# Altium schematic symbol library Gero_Board.SchLib: 35 symbols
Pins are listed as number, name and electrical type; pins without a type are passive.

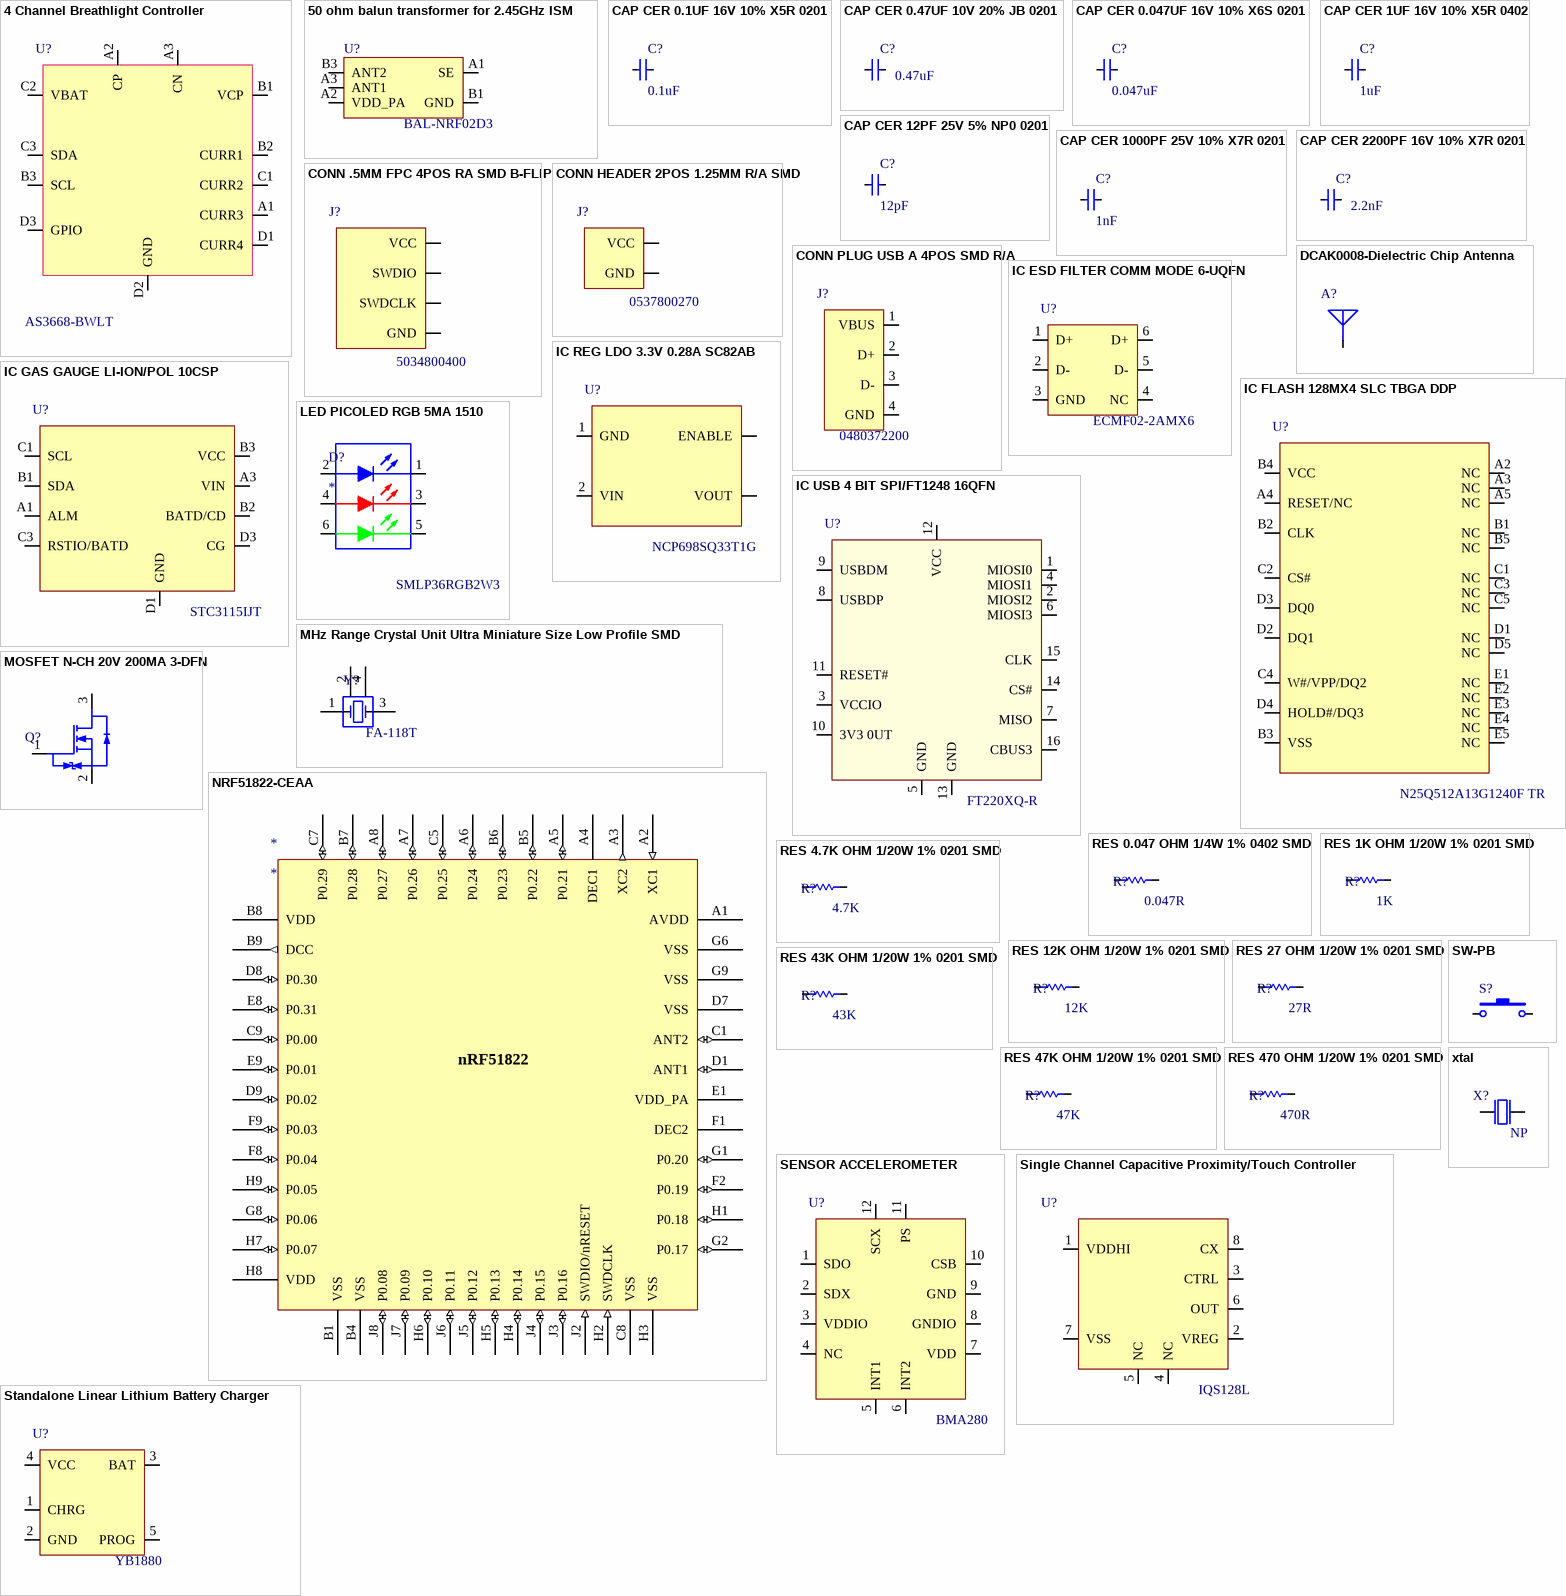
[diagram p0: symbols 4 Channel Breathlight Controller to xtal]

## 4 Channel Breathlight Controller
designator U?  Manufacturer Part Number: AS3668-BWLT
4 Channel Breathlight Controller; Manufacturer: AMS
footprint AS3668  CSP 1.3x1.7mm
pins: A1 CURR3, A2 CP, A3 CN, B1 VCP, B2 CURR1, B3 SCL, C1 CURR2, C2 VBAT, C3 SDA, D1 CURR4, D2 GND, D3 GPIO

## 50 ohm balun transformer for 2.45GHz ISM
designator U?  Manufacturer Part Number: BAL-NRF02D3
50 ohm balun transformer for 2.45GHz ISM; Manufacturer: ST Microelectronics
footprint BAL-NRF02D3
pins: A1 SE, A2 VDD_PA, A3 ANT1, B1 GND, B3 ANT2

## CAP CER 0.1UF 16V 10% X5R 0201
designator C?  value 0.1uF
CAP CER 0.1UF 16V 10% X5R 0201; Manufacturer: TDK Corporation; Manufacturer Part Number: C0603X5R1C104K030BC; Voltage: 16V
footprint CAPC1005X04L
pins: 1, 2

## CAP CER 0.47UF 10V 20% JB 0201
designator C?  value 0.47uF
CAP CER 0.47UF 10V 20% JB 0201; Manufacturer: TDK Corporation; Manufacturer Part Number: C0603JB1A474M030BC; Voltage: 10V
footprint CAPC1005X04L
pins: 1, 2

## CAP CER 0.047UF 16V 10% X6S 0201
designator C?  value 0.047uF
CAP CER 0.047UF 16V 10% X6S 0201; Manufacturer: TDK Corporation; Manufacturer Part Number: C0603X6S1C473K030BC; Voltage: 16V
footprint CAPC1005X04L
pins: 1, 2

## CAP CER 1UF 16V 10% X5R 0402
designator C?  value 1uF
CAP CER 1UF 16V 10% X5R 0402; Manufacturer: TDK Corporation; Manufacturer Part Number: C1005X5R1C105K050BC; Note: 16V
footprint CAPC1005X04L
pins: 1, 2

## CAP CER 12PF 25V 5% NP0 0201
designator C?  value 12pF
CAP CER 12PF 25V 5% NP0 0201; Manufacturer: TDK Corporation; Manufacturer Part Number: C0603C0G1E120J030BA; Voltage: 25V
footprint CAPC1005X04L
pins: 1, 2

## CAP CER 1000PF 25V 10% X7R 0201
designator C?  value 1nF
CAP CER 1000PF 25V 10% X7R 0201; Manufacturer: TDK Corporation; Manufacturer Part Number: C0603X7R1E102K030BA; Voltage: 25V
footprint CAPC1005X04L
pins: 1, 2

## CAP CER 2200PF 16V 10% X7R 0201
designator C?  value 2.2nF
CAP CER 2200PF 16V 10% X7R 0201; Manufacturer: TDK Corporation; Manufacturer Part Number: C0603X7R1C222K030BA; Voltage: 16V
footprint CAPC1005X04L
pins: 1, 2

## CONN .5MM FPC 4POS RA SMD B-FLIP
designator J?  Manufacturer Part Number: 5034800400  (hidden comment: CONN .5MM FPC 4POS RA SMD B-FLIP)
Manufacturer: Molex Inc
pins: 1 VCC, 2 SWDIO, 3 SWDCLK, 4 GND

## CONN HEADER 2POS 1.25MM R/A SMD
designator J?  Manufacturer Part Number: 0537800270  (hidden comment: CONN HEADER 2POS 1.25MM R/A SMD)
Manufacturer: Molex Inc
pins: 1 VCC, 2 GND

## CONN PLUG USB A 4POS SMD R/A
designator J?  Manufacturer Part Number: 0480372200  (hidden comment: CONN PLUG USB A 4POS SMD R/A)
Manufacturer: Molex Inc
pins: 1 VBUS, 2 D+, 3 D-, 4 GND

## DCAK0008-Dielectric Chip Antenna
designator A?  (value not drawn)
Manufacturer: CIROCOMM TECHNOLOGY; Manufacuturer Part No: 03A40D5M00J0110
pins: 1 A

## IC ESD FILTER COMM MODE 6-UQFN
designator U?  Manufacturer Part Number: ECMF02-2AMX6  (hidden comment: IC ESD FILTER COMM MODE 6-UQFN)
Manufacturer: STMicroelectronics
pins: 1 D+, 2 D-, 3 GND, 4 NC, 5 D-, 6 D+

## IC FLASH 128MX4 SLC TBGA DDP
designator U?  Manufacturer Part Number: N25Q512A13G1240F TR  (hidden comment: IC FLASH 128MX4 SLC TBGA DDP)
Manufacturer: Micron Technology Inc
footprint N25Q512A13G1240F (IC FLASH 512MBIT 108MHZ 24TBGA)
pins: A2 NC, A3 NC, A4 RESET/NC, A5 NC, B1 NC, B2 CLK, B3 VSS, B4 VCC, B5 NC, C1 NC, C2 CS#, C3 NC, C4 W#/VPP/DQ2, C5 NC, D1 NC, D2 DQ1, D3 DQ0, D4 HOLD#/DQ3, D5 NC, E1 NC, E2 NC, E3 NC, E4 NC, E5 NC

## IC GAS GAUGE LI-ION/POL 10CSP
designator U?  Manufacturer Part Number: STC3115IJT
IC GAS GAUGE LI-ION/POL 10CSP; Manufacturer: STMicroelectronics
footprint STC3115 (IC GAS GAUGE LI-ION/POL 10CSP)
pins: A1 ALM, A3 VIN, B1 SDA, B2 BATD/CD, B3 VCC, C1 SCL, C3 RSTIO/BATD, D1 GND, D3 CG

## IC REG LDO 3.3V 0.28A SC82AB
designator U?  Manufacturer Part Number: NCP698SQ33T1G  (hidden comment: IC REG LDO 3.3V 0.28A SC82AB)
Manufacturer: ON Semiconductor
pins: 1 GND, 2 VIN, 3 ENABLE, 4 VOUT

## IC USB 4 BIT SPI/FT1248 16QFN
designator U?  Manufacturer Part Number: FT220XQ-R  (hidden comment: *)
IC USB 4 BIT SPI/FT1248 16QFN; Manufacturer: FTDI, Future Technology Devices International Ltd; Package: 16-WQFN
footprint FT220 XQ-R (IC USB 4 BIT SPI/FT1248 16QFN)
pins: 1 MIOSI0, 2 MIOSI2, 3 VCCIO, 4 MIOSI1, 5 GND, 6 MIOSI3, 7 MISO, 8 USBDP, 9 USBDM, 10 3V3 0UT , 11 RESET#, 12 VCC, 13 GND, 14 CS#, 15 CLK, 16 CBUS3

## LED PICOLED RGB 5MA 1510
designator D?  Manufacturer Part Number: SMLP36RGB2W3
LED PICOLED RGB 5MA 1510; Manufacturer: Rohm Semiconductor
footprint VLMG1300-GS08 (LED YELLOW GREEN 0603 SMD)
pins: 1 K, 2 A, 3 K, 4 A, 5 K, 6 A

## MHz Range Crystal Unit Ultra Miniature Size Low Profile SMD
designator Y?  Manufacturer Part Number: FA-118T  (hidden comment: MHz Range Crystal Unit Ultra Miniature Size Low Profile SMD)
Manufacturer: EPSON
footprint FA-118T
pins: 1 XTAL_IN, 2 GND, 3 XTAL_OUT, 4 GND

## MOSFET N-CH 20V 200MA 3-DFN
designator Q?
MOSFET N-CH 20V 200MA 3-DFN; MANUFACTURER: Diodes Inc; MFG PART NO: DMN2005LP4K-7
pins: 1 G, 2 S, 3 D

## NRF51822-CEAA
designator *
ol Bluetooth Low Energy and 2.4GHz proprietary system-on-chip; Manufacturer: Nordic; Manufacturer Part Number: NRF51822-CEAA; Description: nRFS110 Bluetooth low energy stack
footprint NRF51822-CEAA (BGA, 62-Leads, Body 3,8x3,5mm,  Pitch 0,40mm)
pins: A1 AVDD (power), A2 XC1 (in), A3 XC2 (out), A4 DEC1 (power), A5 P0.21 (io), A6 P0.24 (io), A7 P0.26 (io), A8 P0.27 (io), B1 VSS (power), B4 VSS (power), B5 P0.22 (io), B6 P0.23 (io), B7 P0.28 (io), B8 VDD (power), B9 DCC (out), C1 ANT2 (io), C5 P0.25 (io), C7 P0.29 (io), C8 VSS (power), C9 P0.00 (io), D1 ANT1 (io), D7 VSS (power), D8 P0.30 (io), D9 P0.02 (io), E1 VDD_PA (power), E8 P0.31 (io), E9 P0.01 (io), F1 DEC2 (power), F2 P0.19 (io), F8 P0.04 (io), F9 P0.03 (io), G1 P0.20 (io), G2 P0.17 (io), G6 VSS (power), G8 P0.06 (io), G9 VSS (power), H1 P0.18 (io), H2 SWDCLK (in), H3 VSS (power), H4 P0.14 (io), H5 P0.13 (io), H6 P0.10 (io), H7 P0.07 (io), H8 VDD (power), H9 P0.05 (io), J2 SWDIO/nRESET (in), J3 P0.16 (io), J4 P0.15 (io), J5 P0.12 (io), J6 P0.11 (io), J7 P0.09 (io), J8 P0.08 (io)
text: nRF51822

## RES 0.047 OHM 1/4W 1% 0402 SMD
designator R?  value 0.047R
RES 0.047 OHM 1/4W 1% 0402 SMD; Manufacturer Part Number_1: ERJ-2BWFR047X; Manufacturer_1: Panasonic Electronic Components; Package: R0402
footprint R0402
pins: 1, 2

## RES 1K OHM 1/20W 1% 0201 SMD
designator R?  value 1K
RES 1K OHM 1/20W 1% 0201 SMD; Manufacturer Part Number_1: ERJ-1GEF1001C; Manufacturer_1: Panasonic Electronic Components; Package: R0201
footprint R0402
pins: 1, 2

## RES 4.7K OHM 1/20W 1% 0201 SMD
designator R?  value 4.7K
RES 4.7K OHM 1/20W 1% 0201 SMD; Manufacturer Part Number_1: ERJ-1GEF4701C; Manufacturer: Panasonic Electronic Components; Package: R0201
footprint R0402
pins: 1, 2

## RES 12K OHM 1/20W 1% 0201 SMD
designator R?  value 12K
RES 12K OHM 1/20W 1% 0201 SMD; Manufacturer Part Number_1: ERJ-1GEF1202C; Manufacturer_1: Panasonic Electronic Components; Package: R0201
footprint R0402
pins: 1, 2

## RES 27 OHM 1/20W 1% 0201 SMD
designator R?  value 27R
RES 27 OHM 1/20W 1% 0201 SMD; Manufacturer Part Number: ERJ-1GEF27R0C; Manufacturer: Panasonic Electronic Components; Package: R0201
footprint R0402
pins: 1, 2

## RES 43K OHM 1/20W 1% 0201 SMD
designator R?  value 43K
RES 43K OHM 1/20W 1% 0201 SMD; Manufacturer Part Number: ERJ-1GEF4302C; Manufacturer: Panasonic Electronic Components; Package: R0402
footprint R0402
pins: 1, 2

## RES 47K OHM 1/20W 1% 0201 SMD
designator R?  value 47K
RES 47K OHM 1/20W 1% 0201 SMD; Manufacturer Part Number_1: ERJ-1GEF4702C; Manufacturer: Panasonic Electronic Components; Package: R0201
footprint R0402
pins: 1, 2

## RES 470 OHM 1/20W 1% 0201 SMD
designator R?  value 470R
RES 470 OHM 1/20W 1% 0201 SMD; Manufacturer Part Number_1: ERJ-1GEF4700C; Manufacturer: Panasonic Electronic Components; Package: R0201
footprint R0402
pins: 1, 2

## SENSOR ACCELEROMETER
designator U?  Manufacturer Part Number: BMA280
SENSOR ACCELEROMETER; Manufacturer: Bosch Sensortec
pins: 1 SDO, 2 SDX, 3 VDDIO, 4 NC, 5 INT1, 6 INT2, 7 VDD, 8 GNDIO, 9 GND, 10 CSB, 11 PS, 12 SCX

## Single Channel Capacitive Proximity/Touch Controller
designator U?  Manufacturer Part Number: IQS128L  (hidden comment: *)
Single Channel Capacitive Proximity/Touch Controller; Manufacturer: Azoteq
footprint IQS128
pins: 1 VDDHI, 2 VREG, 3 CTRL, 4 NC, 5 NC, 6 OUT, 7 VSS, 8 CX

## Standalone Linear Lithium Battery Charger
designator U?  Manufacturer Part Number: YB1880  (hidden comment: Standalone Linear Lithium Battery Charger)
Manufacturer: YOBON TECHNOLOGIES; Package Type: SOT23-5
footprint YB1880ST25P (Standalone Linear Lithium Battery Charger)
pins: 1 CHRG, 2 GND, 3 BAT, 4 VCC, 5 PROG

## SW-PB
designator S?
Switch; Manufacturer: *; Manufacturer Part No: *
pins: 1, 2

## xtal
designator X?  value NP  (hidden comment: xtal)
Manufacturer: *; Manufacturer Part Number: *
pins: 1 inp, 3 out